# EAGLE library part BQ25101/H (library Eric Navarrete Custom Parts Feb 2019)
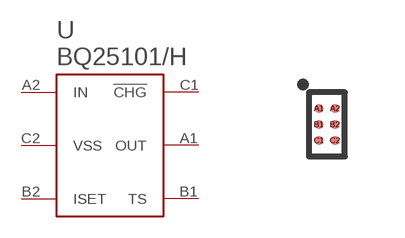
[diagram p5: symbol with the pads of DSBGA(6); footprint DSBGA(6)]

Designator prefix U

## BQ25101/H  [DSBGA(6)]
A1  OUT
A2  IN
B1  TS
B2  ISET
C1  !CHG
C2  VSS

## Footprint DSBGA(6) (pad centres in mm)
smd 0.23 x 0.23: A1 -0.2,0.4; A2 0.2,0.4; B1 -0.2,0; B2 0.2,0; C1 -0.2,-0.4; C2 0.2,-0.4